# Altium schematic symbol library pcbBoard.SCHLIB: 14 symbols
Pins are listed as number, name and electrical type; pins without a type are passive.

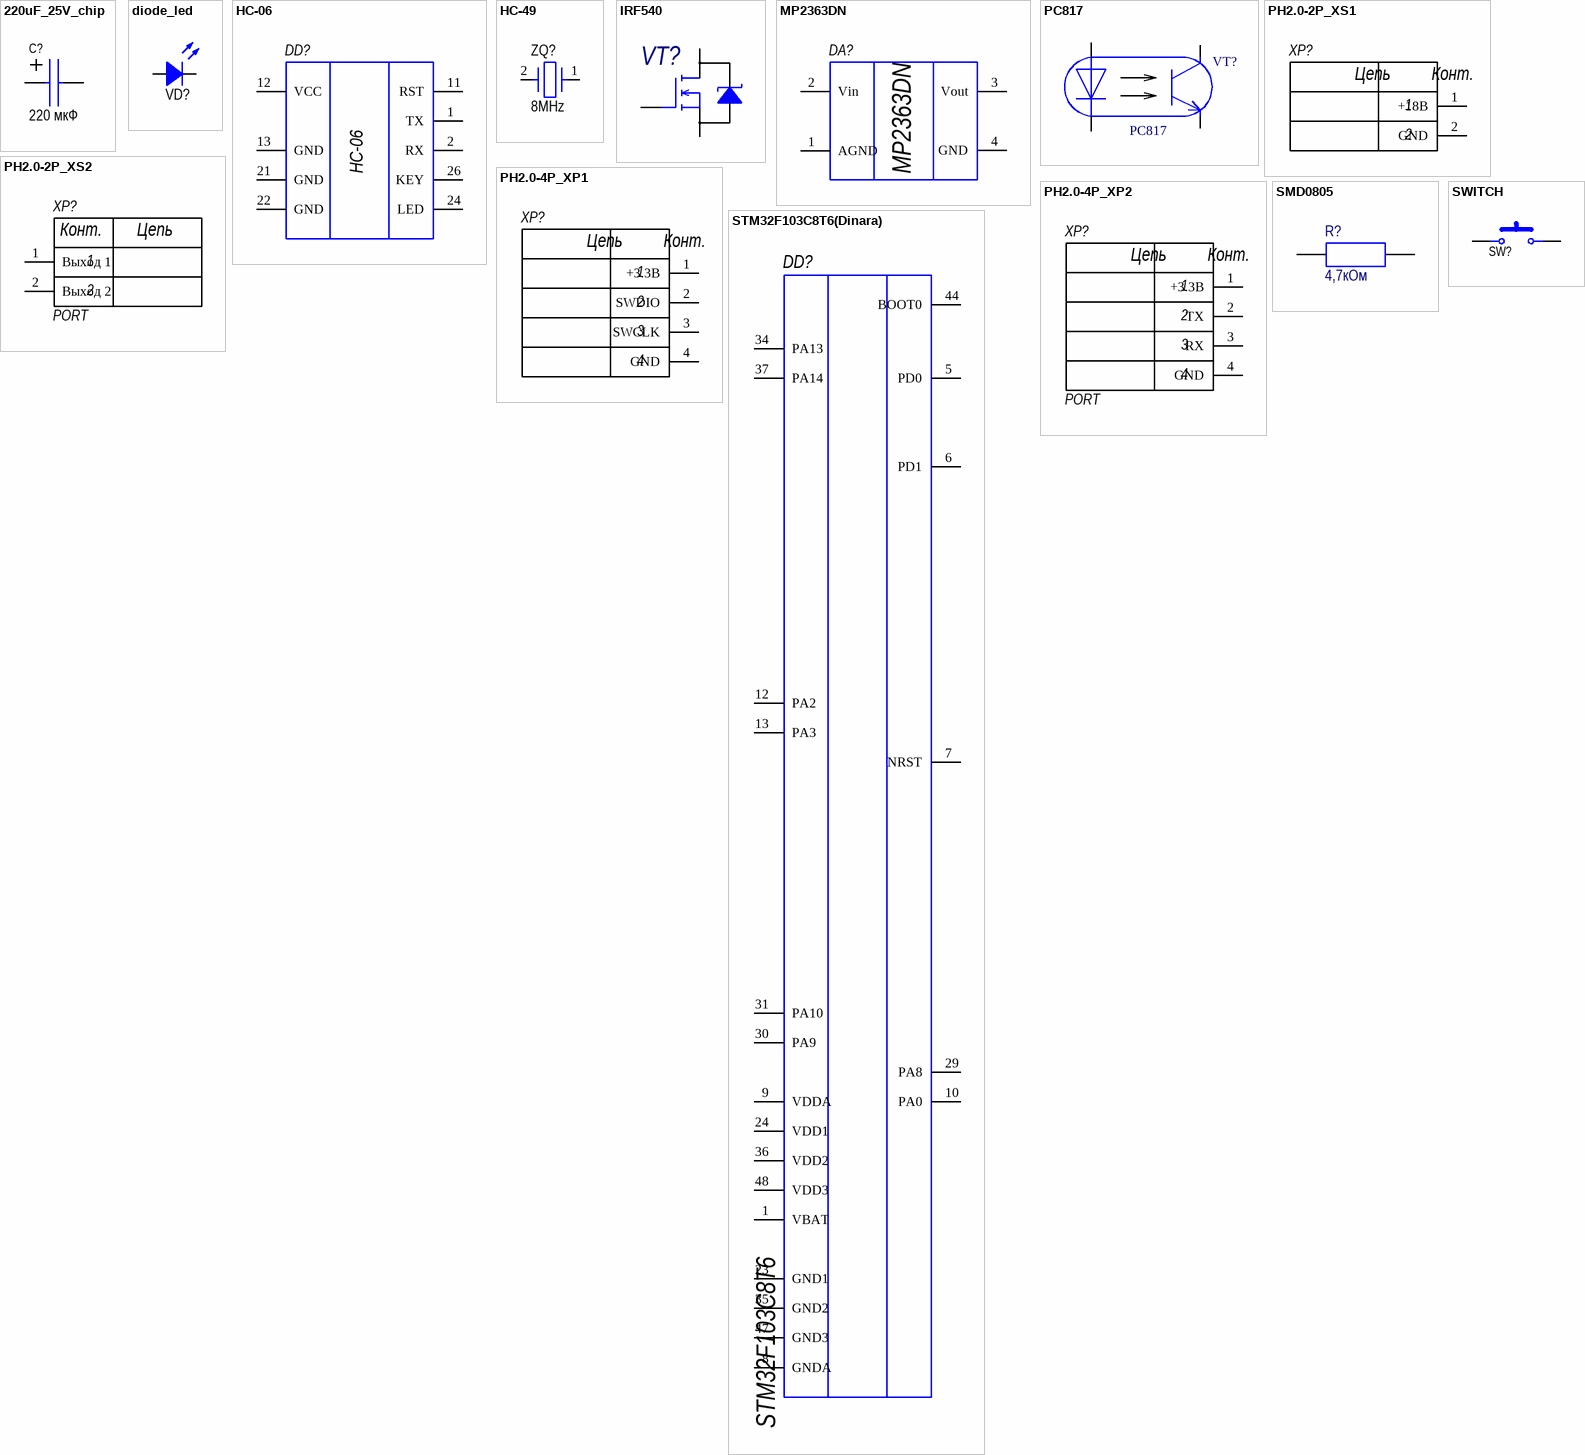
[diagram p0: symbols 220uF_25V_chip to SWITCH]

## 220uF_25V_chip
designator C?  value 220 мкФ  (hidden comment: 220uF_25V_chip)
footprint chip_25V_220uF (Capacitor, polarized, aluminum can; 8.0x6.2mm DxH)
pins: 1, 2

## diode_led
designator VD?, comment RED  (value not drawn)
footprint LED0805
pins: 1 A, 2 K

## HC-06
designator DD?
ComponentLink1Description: Datasheet; ComponentLink1URL: http://www.farnell.com/datasheets/2236920.pdf
footprint HC-06
pins: 1 TX, 2 RX, 11 RST, 12 VCC, 13 GND, 21 GND, 22 GND, 24 LED, 26 KEY

## HC-49
designator ZQ?, comment 8MHz
footprint HC-49SM
pins: 1, 2

## IRF540
designator VT?  (value not drawn)
Type: Транзистор; Published: 10.02.2014; Publisher: Andrew Danich
footprint IRF540_D2Pak
pins: 1 G "Затвор", 2 D "Сток", 3 S "Исток"

## MP2363DN
designator DA?
Преобразователь напряжения
footprint MP2363DN
pins: 1 AGND, 2 Vin, 3 Vout, 4 GND

## PC817
designator VT?
footprint DIP4_SMD_PC817
pins: 1 A "Коллектор", 2 K "Эмиттер", 3 Э "Эмиттер", 4 К "Коллектор"

## PH2.0-2P_XS1
designator XP?, comment PORT  (value not drawn)
footprint DJK-02A
pins: 1 +18B, 2 GND
text: Цепь; Конт.

## PH2.0-2P_XS2
designator XP?, comment PORT
footprint DJK-02A
pins: 1 Выход 1, 2 Выход 2
text: Конт.; Цепь

## PH2.0-4P_XP1
designator XP?, comment PORT  (value not drawn)
footprint ph2.0-4P
pins: 1 +3.3B, 2 SWDIO, 3 SWCLK, 4 GND
text: Цепь; Конт.

## PH2.0-4P_XP2
designator XP?, comment PORT
footprint ph2.0-4P
pins: 1 +3.3B, 2 TX, 3 RX, 4 GND
text: Цепь; Конт.

## SMD0805
designator R?, comment 4,7кОм
footprint SMD0805
footprint RES: SMD0805
pins: 1, 2

## STM32F103C8T6(Dinara)
designator DD?, comment STM32F103C8T6
A/D Converter: 2x12-bit (10 Channel); Core: ARM Cortex-M3; FLASH Size (Prog) (kB): 64; I/Os (High Current): 37; Internal RAM Size (kB): 20; Operating Frequency(F) (Processor speed) (MHz): 72; Packing: Tray; Supply Voltage(Vcc) min (V): 2; DatasheetVersion: Rev. 16; PackageVersion: Rev. 6, 06/2013; PackageReference: LQFP48; PackageDescription: 48-Pin Low Profile Quad Flat Package, 7 x 7 mm Body, 0.5 mm Pitch; Supplier 1: Digi-Key; Supplier Part Number 1: 497-6063-ND; Supplier 2: Farnell; Supplier Part Number 2: 1447637; Supplier 3: Newark; Supplier Part Number 3: 59M2182; Supplier 4: Newark; Supplier Part Number 4: 57P1222; Supplier 5: Mouser; Supplier Part Number 5: 511-STM32F103C8T6; Mounting Technology: Surface Mount; PartNumber: STM32F103C8T6; ComponentLink1Description: Manufacturer URL; ComponentLink1URL: http://www.st.com/web/en/home.html; ComponentLink2Description: Datasheet; ComponentLink2URL: http://www.st.com/st-web-ui/static/active/en/resource/technical/document/datasheet/CD00161566.pdf; ComponentLink3Description: Package Specification; ComponentLink3URL: http://www.st.com/st-web-ui/static/active/en/resource/technical/document/datasheet/DM00058181.pdf
footprint LQFP48_N (QFP, 48-Leads, Body 7x7mm, Pitch 0.5mm, IPC Medium Density)
pins: 1 VBAT, 5 PD0, 6 PD1, 7 NRST "RESET", 8 GNDA, 9 VDDA, 10 PA0, 12 PA2, 13 PA3, 23 GND1 "PB0", 24 VDD1 "GND2", 29 PA8, 30 PA9, 31 PA10, 34 PA13, 35 GND2, 36 VDD2, 37 PA14, 44 BOOT0, 47 GND3, 48 VDD3

## SWITCH
designator SW?  (value not drawn)
ComponentLink1Description: AliExpress; ComponentLink1URL: https://ru.aliexpress.com/item/10PCS-4-4-1-6mm-4x4x1-6H-SMD-push-button-switch-microswitch-Tact-Switch/32731081870.html?spm=a2g0s.9042311.0.0.250233edGDnBBV
footprint SWITCH
footprint KLS76x6x4.3
pins: 1, 2